# Altium footprint library CN_HDR2X3.PcbLib: 1 footprints
Each footprint in its own frame and in the unit in brackets; x right, y up, seen from the top. Pads: shape width x height; smd on the part's side, far side on the other; paste and mask are expansions set on the pad; w line width, h text height; cw(c..) or ccw(c..) is an arc to the next point about the centre after c.
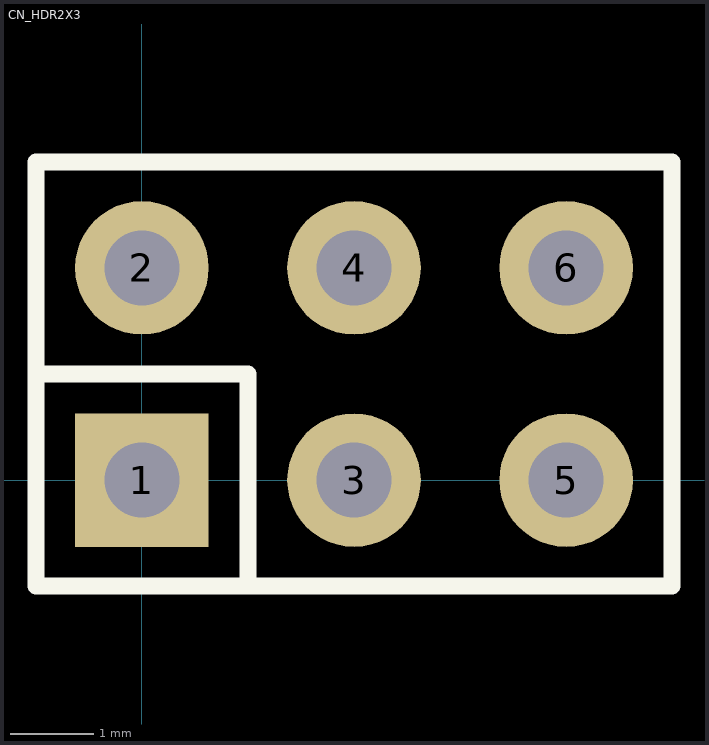
[diagram p0: the footprint, top view; thin cyan lines are the x and y axes]

## CN_HDR2X3 [mm]
pads (6):
  rect 1.6x1.6 hole 0.9: 1(0,0)
  round 1.6 hole 0.9: 2(0,2.54) 3(2.54,0) 4(2.54,2.54) 5(5.08,0) 6(5.08,2.54)
Top Overlay:
  lines w0.203: -1.27,1.27 1.27,1.27 1.27,-1.27 ; -1.27,-1.27 6.35,-1.27 6.35,3.81 -1.27,3.81 -1.27,-1.27
3D body: height 8.6, standoff -3.2, extent -1.27,-1.23 6.35,3.77